# Altium footprint library Custom.PcbLib: 1 footprints
Each footprint in its own frame and in the unit in brackets; x right, y up, seen from the top. Pads: shape width x height; smd on the part's side, far side on the other; paste and mask are expansions set on the pad; w line width, h text height; cw(c..) or ccw(c..) is an arc to the next point about the centre after c.
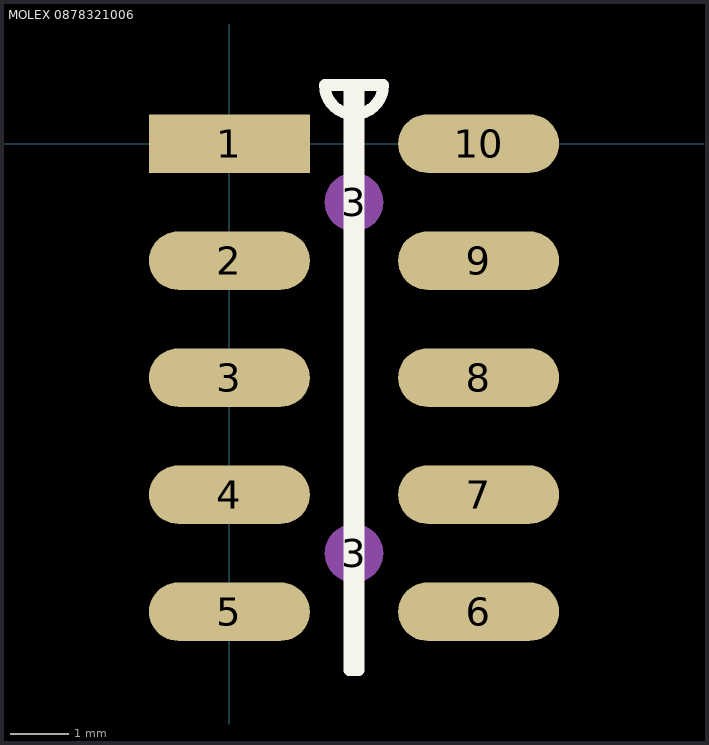
[diagram p0: the footprint, top view; thin cyan lines are the x and y axes]

## MOLEX 0878321006 [mm]
pads (12):
  rect 2.75x1 smd: 1(0,0)
  oval 2.75x1 smd: 2(0,-2) 3(0,-4) 4(0,-6) 5(0,-8) 6(4.26,-8) 7(4.26,-6) 8(4.26,-4) 9(4.26,-2) 10(4.26,0)
  round 1 on Mech1: 3(2.13,-7) 3(2.13,-1)
Top Overlay:
  lines w0.2: 1.63,1 ccw(c2.13,1) 2.63,1 2.05,1 2.05,-9 2.21,-9 2.21,1 1.63,1
3D body "878321006 v3.step": height 9.05, standoff -1, extent -1.016,-10.237 5.334,2.413